# Altium schematic symbol library JUMPER.SchLib: 1 symbol
Pins are listed as number, name and electrical type; pins without a type are passive.

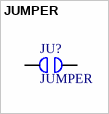
[diagram p0: symbol JUMPER]

## JUMPER
designator JU?
footprint JUMPER
pins: 1, 2